# Altium schematic symbol library OpenCM 9.04.SchLib: 1 symbol
Pins are listed as number, name and electrical type; pins without a type are passive.

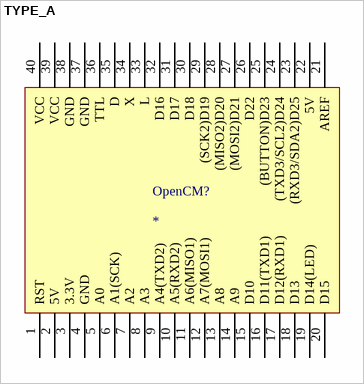
[diagram p0: symbol TYPE_A]

## TYPE_A
designator OpenCM?
OpenCM 9.04
footprint openCM9.04
pins: 1 RST, 2 5V, 3 3.3V, 4 GND, 5 A0, 6 A1(SCK), 7 A2, 8 A3, 9 A4(TXD2), 10 A5(RXD2), 11 A6(MISO1), 12 A7(MOSI1), 13 A8, 14 A9, 15 D10, 16 D11(TXD1), 17 D12(RXD1), 18 D13, 19 D14(LED), 20 D15, 21 AREF, 22 5V, 23 (RXD3/SDA2)D25, 24 (TXD3/SCL2)D24, 25 (BUTTON)D23, 26 D22, 27 (MOSI2)D21, 28 (MISO2)D20, 29 (SCK2)D19, 30 D18, 31 D17, 32 D16, 33 L, 34 X, 35 D, 36 TTL, 37 GND, 38 GND, 39 VCC, 40 VCC